# Altium footprint library nrf52810_qxaa.PcbLib: 8 footprints
Each footprint in its own frame and in the unit in brackets; x right, y up, seen from the top. Pads: shape width x height; smd on the part's side, far side on the other; paste and mask are expansions set on the pad; w line width, h text height; cw(c..) or ccw(c..) is an arc to the next point about the centre after c.
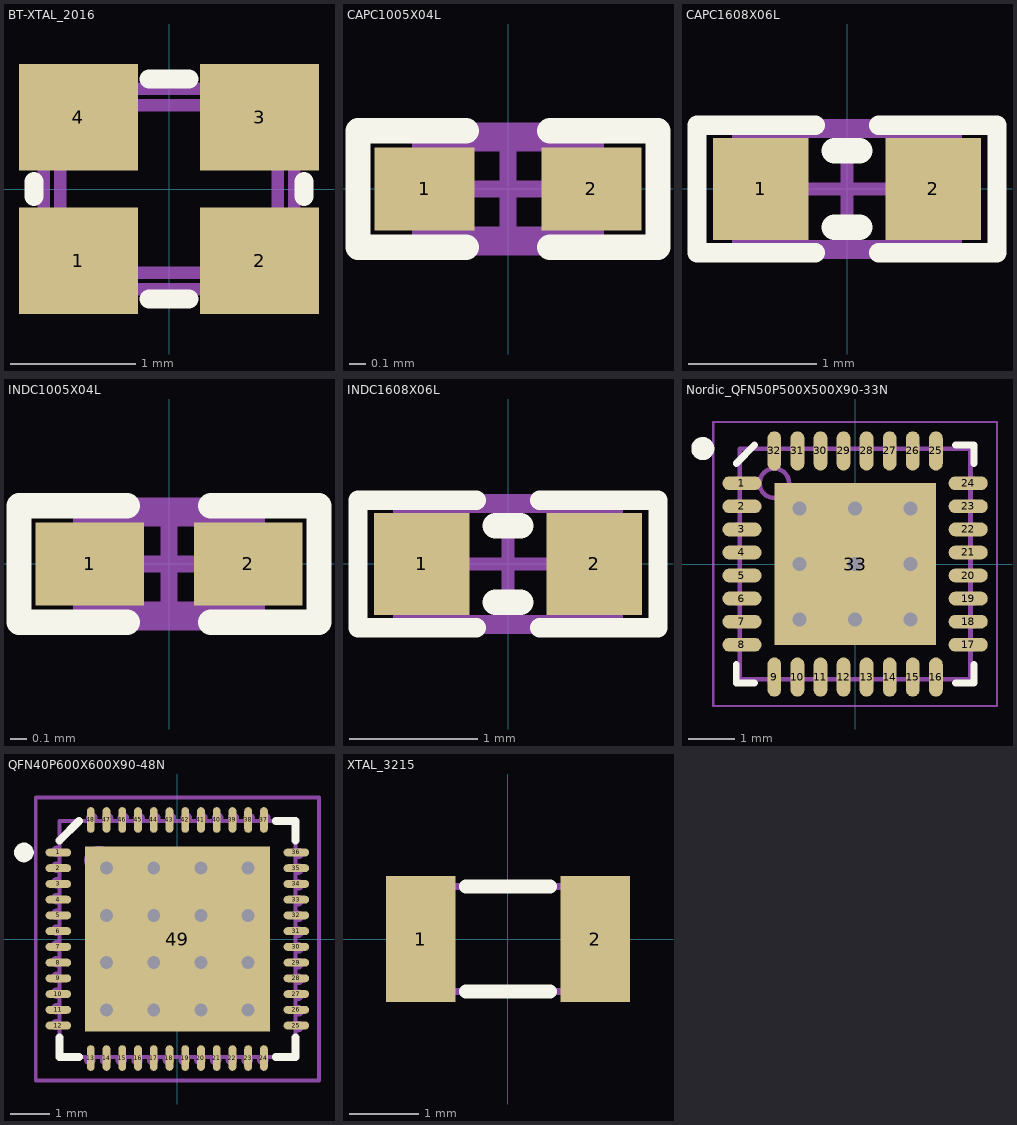
[diagram p0: the footprints below, top view; thin cyan lines are the x and y axes]

## BT-XTAL_2016 [mm]
pads (4):
  rect 0.95x0.85 smd: 1(-0.725,-0.575) 2(0.725,-0.575) 3(0.725,0.575) 4(-0.725,0.575)
Top Overlay:
  lines w0.152: -1.08,-0.06 -1.08,0.06 ; -0.16,-0.88 0.16,-0.88 ; -0.16,0.88 0.16,0.88 ; 1.08,-0.06 1.08,0.06
Mechanical 7:
  lines w0.1: -1,-0.7 cw(c-1,-0.8) -0.9,-0.8 0.9,-0.8 cw(c1,-0.8) 1,-0.7 1,0.7 cw(c1,0.8) 0.9,0.8 -0.9,0.8 cw(c-1,0.8) -1,0.7 -1,-0.7 ; -0.87,-0.57 ccw(c-0.77,-0.57) -0.77,-0.67 0.77,-0.67 ccw(c0.77,-0.57) 0.87,-0.57 0.87,0.57 ccw(c0.77,0.57) 0.77,0.67 -0.77,0.67 ccw(c-0.77,0.57) -0.87,0.57 -0.87,-0.57
  text ".Designator" at -0.7,-0.2 h0.38
3D body: height 0.56, standoff 0.15, extent -0.7,-0.65 0.7,0.65
3D body "User Library-GeyerElectronics_KX5.step": height 0.56, standoff 0, extent -1.05,-0.85 1.05,0.85

## CAPC1005X04L [mm]
pads (2):
  rect 0.6x0.5 smd: 1(-0.5,0) 2(0.5,0)
Top Overlay:
  lines w0.152: -0.25,-0.35 -0.9,-0.35 -0.9,0.35 -0.25,0.35 ; 0.25,-0.35 0.9,-0.35 0.9,0.35 0.25,0.35
Mechanical 7:
  lines w0.1: -0.525,-0.275 -0.525,0.275 0.525,0.275 0.525,-0.275 -0.525,-0.275
  text ".Designator" at -0.432,-0.152 h0.3
Mechanical 15:
  lines w0.1: -0.275,0 0.275,0 ; 0,-0.275 0,0.275 ; -0.9,-0.35 0.9,-0.35 0.9,0.35 -0.9,0.35 -0.9,-0.35
3D body "User Library-0402(1005M) Cap.step": height 0.5, standoff -0.01, extent -0.508,-0.254 0.508,0.254

## CAPC1608X06L [mm]
pads (2):
  rect 0.75x0.8 smd: 1(-0.675,0) 2(0.675,0)
Top Overlay:
  lines w0.152: -0.25,-0.5 -1.175,-0.5 -1.175,0.5 -0.25,0.5 ; 0.25,-0.5 1.175,-0.5 1.175,0.5 0.25,0.5
  lines w0.2: -0.1,-0.3 0.1,-0.3 ; -0.1,0.3 0.1,0.3
Mechanical 7:
  lines w0.1: -0.85,-0.45 -0.85,0.45 0.85,0.45 0.85,-0.45 -0.85,-0.45
  text ".Designator" at -0.685,-0.142 h0.38
Mechanical 15:
  lines w0.1: -0.45,0 0.45,0 ; 0,-0.45 0,0.45 ; -1.175,-0.5 1.175,-0.5 1.175,0.5 -1.175,0.5 -1.175,-0.5
3D body "User Library-Chip Capacitor 0603.step": height 0.8, standoff 0, extent -0.8,-0.43 0.8,0.43

## INDC1005X04L [mm]
pads (2):
  rect 0.65x0.5 smd: 1(-0.475,0) 2(0.475,0)
Top Overlay:
  lines w0.152: -0.25,-0.35 -0.9,-0.35 -0.9,0.35 -0.25,0.35 ; 0.25,-0.35 0.9,-0.35 0.9,0.35 0.25,0.35
Mechanical 7:
  lines w0.1: -0.525,-0.275 -0.525,0.275 0.525,0.275 0.525,-0.275 -0.525,-0.275
  text ".Designator" at -0.432,-0.152 h0.3
Mechanical 15:
  lines w0.1: -0.275,0 0.275,0 ; 0,-0.275 0,0.275 ; -0.9,-0.35 -0.9,0.35 0.9,0.35 0.9,-0.35 -0.9,-0.35
3D body "User Library-Chip Inductor 0402.step": height 0.5, standoff 0, extent -0.5,-0.3 0.5,0.3

## INDC1608X06L [mm]
pads (2):
  rect 0.75x0.8 smd: 1(-0.675,0) 2(0.675,0)
Top Overlay:
  lines w0.152: -0.25,-0.5 -1.175,-0.5 -1.175,0.5 -0.25,0.5 ; 0.25,-0.5 1.175,-0.5 1.175,0.5 0.25,0.5
  lines w0.2: -0.1,-0.3 0.1,-0.3 ; -0.1,0.3 0.1,0.3
Mechanical 7:
  lines w0.1: -0.85,-0.45 0.85,-0.45 0.85,0.45 -0.85,0.45 -0.85,-0.45
  text ".Designator" at -0.7,-0.2 h0.38
Mechanical 15:
  lines w0.1: -0.45,0 0.45,0 ; 0,-0.45 0,0.45 ; -1.175,-0.5 -1.175,0.5 1.175,0.5 1.175,-0.5 -1.175,-0.5
3D body "User Library-Chip Inductor.step": height 0.8, standoff 0, extent -0.8,-0.475 0.8,0.475

## Nordic_QFN50P500X500X90-33N [mm]
pads (33):
  oval 0.85x0.3 smd mask+0.076: 1(-2.45,1.75) 2(-2.45,1.25) 3(-2.45,0.75) 4(-2.45,0.25) 5(-2.45,-0.25) 6(-2.45,-0.75) 7(-2.45,-1.25) 8(-2.45,-1.75) 17(2.45,-1.75) 18(2.45,-1.25) 19(2.45,-0.75) 20(2.45,-0.25) 21(2.45,0.25) 22(2.45,0.75) 23(2.45,1.25) 24(2.45,1.75)
  oval 0.3x0.85 smd mask+0.076: 9(-1.75,-2.45) 10(-1.25,-2.45) 11(-0.75,-2.45) 12(-0.25,-2.45) 13(0.25,-2.45) 14(0.75,-2.45) 15(1.25,-2.45) 16(1.75,-2.45) 25(1.75,2.45) 26(1.25,2.45) 27(0.75,2.45) 28(0.25,2.45) 29(-0.25,2.45) 30(-0.75,2.45) 31(-1.25,2.45) 32(-1.75,2.45)
  rect 3.5x3.5 smd: 33(0,0)
via 1.2,1.2 diameter 0.61 hole 0.305
via 1.2,0 diameter 0.61 hole 0.305
via 1.2,-1.2 diameter 0.61 hole 0.305
via 0,-1.2 diameter 0.61 hole 0.305
via -1.2,-1.2 diameter 0.61 hole 0.305
via -1.2,0 diameter 0.61 hole 0.305
via -1.2,1.2 diameter 0.61 hole 0.305
via 0,1.2 diameter 0.61 hole 0.305
via 0,0 diameter 0.61 hole 0.305
Top Overlay:
  circle w0.25: c-3.3,2.5 r0.125
  lines w0.15: -2.575,-2.175 -2.575,-2.575 -2.175,-2.575 ; -2.575,2.175 -2.175,2.575 ; 2.175,-2.575 2.575,-2.575 2.575,-2.175 ; 2.175,2.575 2.575,2.575 2.575,2.175
Mechanical 7:
  circle w0.1: c-1.75,1.75 r0.32
  lines w0.1: -2.5,-1.845 -2.571,-1.845 cw(c-2.571,-1.75) -2.571,-1.655 -2.5,-1.655 ; -2.5,-1.345 -2.571,-1.345 cw(c-2.571,-1.25) -2.571,-1.155 -2.5,-1.155 ; -2.5,-0.845 -2.571,-0.845 cw(c-2.571,-0.75) -2.571,-0.655 -2.5,-0.655 ; -2.5,-0.345 -2.571,-0.345 cw(c-2.571,-0.25) -2.571,-0.155 -2.5,-0.155 ; -2.5,0.155 -2.571,0.155 cw(c-2.571,0.25) -2.571,0.345 -2.5,0.345 ; -2.5,0.655 -2.571,0.655 cw(c-2.571,0.75) -2.571,0.845 -2.5,0.845 ; -2.5,1.155 -2.571,1.155 cw(c-2.571,1.25) -2.571,1.345 -2.5,1.345 ; -2.5,1.655 -2.571,1.655 cw(c-2.571,1.75) -2.571,1.845 -2.5,1.845 ; -1.845,-2.5 -1.845,-2.571 ccw(c-1.75,-2.571) -1.655,-2.571 -1.655,-2.5 ; -1.845,2.5 -1.845,2.571 cw(c-1.75,2.571) -1.655,2.571 -1.655,2.5 ; -1.345,-2.5 -1.345,-2.571 ccw(c-1.25,-2.571) -1.155,-2.571 -1.155,-2.5 ; -1.345,2.5 -1.345,2.571 cw(c-1.25,2.571) -1.155,2.571 -1.155,2.5 ; -0.845,-2.5 -0.845,-2.571 ccw(c-0.75,-2.571) -0.655,-2.571 -0.655,-2.5 ; -0.845,2.5 -0.845,2.571 cw(c-0.75,2.571) -0.655,2.571 -0.655,2.5 ; -0.345,-2.5 -0.345,-2.571 ccw(c-0.25,-2.571) -0.155,-2.571 -0.155,-2.5 ; -0.345,2.5 -0.345,2.571 cw(c-0.25,2.571) -0.155,2.571 -0.155,2.5 ; 0.155,-2.5 0.155,-2.571 ccw(c0.25,-2.571) 0.345,-2.571 0.345,-2.5 ; 0.155,2.5 0.155,2.571 cw(c0.25,2.571) 0.345,2.571 0.345,2.5 ; 0.655,-2.5 0.655,-2.571 ccw(c0.75,-2.571) 0.845,-2.571 0.845,-2.5 ; 0.655,2.5 0.655,2.571 cw(c0.75,2.571) 0.845,2.571 0.845,2.5 ; 1.155,-2.5 1.155,-2.571 ccw(c1.25,-2.571) 1.345,-2.571 1.345,-2.5 ; 1.155,2.5 1.155,2.571 cw(c1.25,2.571) 1.345,2.571 1.345,2.5 ; 1.655,-2.5 1.655,-2.571 ccw(c1.75,-2.571) 1.845,-2.571 1.845,-2.5 ; 1.655,2.5 1.655,2.571 cw(c1.75,2.571) 1.845,2.571 1.845,2.5 ; 2.5,-1.845 2.571,-1.845 ccw(c2.571,-1.75) 2.571,-1.655 2.5,-1.655 ; 2.5,-1.345 2.571,-1.345 ccw(c2.571,-1.25) 2.571,-1.155 2.5,-1.155 ; 2.5,-0.845 2.571,-0.845 ccw(c2.571,-0.75) 2.571,-0.655 2.5,-0.655 ; 2.5,-0.345 2.571,-0.345 ccw(c2.571,-0.25) 2.571,-0.155 2.5,-0.155 ; 2.5,0.155 2.571,0.155 ccw(c2.571,0.25) 2.571,0.345 2.5,0.345 ; 2.5,0.655 2.571,0.655 ccw(c2.571,0.75) 2.571,0.845 2.5,0.845 ; 2.5,1.155 2.571,1.155 ccw(c2.571,1.25) 2.571,1.345 2.5,1.345 ; 2.5,1.655 2.571,1.655 ccw(c2.571,1.75) 2.571,1.845 2.5,1.845 ; -2.5,-2.5 2.5,-2.5 2.5,2.5 -2.5,2.5 -2.5,-2.5
  text ".Designator" at -0.879,-0.131 h0.38
Mechanical 15:
  lines w0.05: -3.075,-3.075 -3.075,3.075 3.075,3.075 3.075,-3.075 -3.075,-3.075
  lines w0.1: -0.5,0 0.5,0 ; 0,-0.5 0,0.5
3D body "QFN50P500X500X90_HS-33N.step": height 0.9, standoff 0, extent -2.501,-2.501 2.501,2.501

## QFN40P600X600X90-48N [mm]
pads (49):
  oval 0.65x0.2 smd: 1(-3.025,2.2) 2(-3.025,1.8) 3(-3.025,1.4) 4(-3.025,1) 5(-3.025,0.6) 6(-3.025,0.2) 7(-3.025,-0.2) 8(-3.025,-0.6) 9(-3.025,-1) 10(-3.025,-1.4) 11(-3.025,-1.8) 12(-3.025,-2.2) 25(3.025,-2.2) 26(3.025,-1.8) 27(3.025,-1.4) 28(3.025,-1) 29(3.025,-0.6) 30(3.025,-0.2) 31(3.025,0.2) 32(3.025,0.6) 33(3.025,1) 34(3.025,1.4) 35(3.025,1.8) 36(3.025,2.2)
  oval 0.2x0.65 smd: 13(-2.2,-3.025) 14(-1.8,-3.025) 15(-1.4,-3.025) 16(-1,-3.025) 17(-0.6,-3.025) 18(-0.2,-3.025) 19(0.2,-3.025) 20(0.6,-3.025) 21(1,-3.025) 22(1.4,-3.025) 23(1.8,-3.025) 24(2.2,-3.025) 37(2.2,3.025) 38(1.8,3.025) 39(1.4,3.025) 40(1,3.025) 41(0.6,3.025) 42(0.2,3.025) 43(-0.2,3.025) 44(-0.6,3.025) 45(-1,3.025) 46(-1.4,3.025) 47(-1.8,3.025) 48(-2.2,3.025)
  rect 4.7x4.7 smd: 49(0,0)
via -1.8,1.8 diameter 0.66 hole 0.33
via -0.6,1.8 diameter 0.66 hole 0.33
via 0.6,1.8 diameter 0.66 hole 0.33
via 1.8,1.8 diameter 0.66 hole 0.33
via -1.8,0.6 diameter 0.66 hole 0.33
via -0.6,0.6 diameter 0.66 hole 0.33
via 0.6,0.6 diameter 0.66 hole 0.33
via 1.8,0.6 diameter 0.66 hole 0.33
via -1.8,-0.6 diameter 0.66 hole 0.33
via -0.6,-0.6 diameter 0.66 hole 0.33
via 0.6,-0.6 diameter 0.66 hole 0.33
via 1.8,-0.6 diameter 0.66 hole 0.33
via -1.8,-1.8 diameter 0.66 hole 0.33
via -0.6,-1.8 diameter 0.66 hole 0.33
via 0.6,-1.8 diameter 0.66 hole 0.33
via 1.8,-1.8 diameter 0.66 hole 0.33
Top Overlay:
  circle w0.25: c-3.9,2.2 r0.125
  lines w0.2: -3,-2.5 -3,-3 -2.5,-3 ; -3,2.5 -2.5,3 ; 2.5,-3 3,-3 3,-2.5 ; 2.5,3 3,3 3,2.5
Mechanical 7:
  circle w0.1: c-2,2 r0.32
  lines w0.1: -3,-2.269 -3.071,-2.269 cw(c-3.071,-2.174) -3.071,-2.079 -3,-2.079 ; -3,-1.869 -3.071,-1.869 cw(c-3.071,-1.774) -3.071,-1.679 -3,-1.679 ; -3,-1.469 -3.071,-1.469 cw(c-3.071,-1.374) -3.071,-1.279 -3,-1.279 ; -3,-1.069 -3.071,-1.069 cw(c-3.071,-0.974) -3.071,-0.879 -3,-0.879 ; -3,-0.669 -3.071,-0.669 cw(c-3.071,-0.574) -3.071,-0.479 -3,-0.479 ; -3,-0.269 -3.071,-0.269 cw(c-3.071,-0.174) -3.071,-0.079 -3,-0.079 ; -3,0.131 -3.071,0.131 cw(c-3.071,0.226) -3.071,0.321 -3,0.321 ; -3,0.531 -3.071,0.531 cw(c-3.071,0.626) -3.071,0.721 -3,0.721 ; -3,0.931 -3.071,0.931 cw(c-3.071,1.026) -3.071,1.121 -3,1.121 ; -3,1.331 -3.071,1.331 cw(c-3.071,1.426) -3.071,1.521 -3,1.521 ; -3,1.731 -3.071,1.731 cw(c-3.071,1.826) -3.071,1.921 -3,1.921 ; -3,2.131 -3.071,2.131 cw(c-3.071,2.226) -3.071,2.321 -3,2.321 ; -2.321,-3 -2.321,-3.071 ccw(c-2.226,-3.071) -2.131,-3.071 -2.131,-3 ; -2.269,3 -2.269,3.071 cw(c-2.174,3.071) -2.079,3.071 -2.079,3 ; -1.921,-3 -1.921,-3.071 ccw(c-1.826,-3.071) -1.731,-3.071 -1.731,-3 ; -1.869,3 -1.869,3.071 cw(c-1.774,3.071) -1.679,3.071 -1.679,3 ; -1.521,-3 -1.521,-3.071 ccw(c-1.426,-3.071) -1.331,-3.071 -1.331,-3 ; -1.469,3 -1.469,3.071 cw(c-1.374,3.071) -1.279,3.071 -1.279,3 ; -1.121,-3 -1.121,-3.071 ccw(c-1.026,-3.071) -0.931,-3.071 -0.931,-3 ; -1.069,3 -1.069,3.071 cw(c-0.974,3.071) -0.879,3.071 -0.879,3 ; -0.721,-3 -0.721,-3.071 ccw(c-0.626,-3.071) -0.531,-3.071 -0.531,-3 ; -0.669,3 -0.669,3.071 cw(c-0.574,3.071) -0.479,3.071 -0.479,3 ; -0.321,-3 -0.321,-3.071 ccw(c-0.226,-3.071) -0.131,-3.071 -0.131,-3 ; -0.269,3 -0.269,3.071 cw(c-0.174,3.071) -0.079,3.071 -0.079,3 ; 0.079,-3 0.079,-3.071 ccw(c0.174,-3.071) 0.269,-3.071 0.269,-3 ; 0.131,3 0.131,3.071 cw(c0.226,3.071) 0.321,3.071 0.321,3 ; 0.479,-3 0.479,-3.071 ccw(c0.574,-3.071) 0.669,-3.071 0.669,-3 ; 0.531,3 0.531,3.071 cw(c0.626,3.071) 0.721,3.071 0.721,3 ; 0.879,-3 0.879,-3.071 ccw(c0.974,-3.071) 1.069,-3.071 1.069,-3 ; 0.931,3 0.931,3.071 cw(c1.026,3.071) 1.121,3.071 1.121,3 ; 1.279,-3 1.279,-3.071 ccw(c1.374,-3.071) 1.469,-3.071 1.469,-3 ; 1.331,3 1.331,3.071 cw(c1.426,3.071) 1.521,3.071 1.521,3 ; 1.679,-3 1.679,-3.071 ccw(c1.774,-3.071) 1.869,-3.071 1.869,-3 ; 1.731,3 1.731,3.071 cw(c1.826,3.071) 1.921,3.071 1.921,3 ; 2.079,-3 2.079,-3.071 ccw(c2.174,-3.071) 2.269,-3.071 2.269,-3 ; 2.131,3 2.131,3.071 cw(c2.226,3.071) 2.321,3.071 2.321,3 ; 3,-2.321 3.071,-2.321 ccw(c3.071,-2.226) 3.071,-2.131 3,-2.131 ; 3,-1.921 3.071,-1.921 ccw(c3.071,-1.826) 3.071,-1.731 3,-1.731 ; 3,-1.521 3.071,-1.521 ccw(c3.071,-1.426) 3.071,-1.331 3,-1.331 ; 3,-1.121 3.071,-1.121 ccw(c3.071,-1.026) 3.071,-0.931 3,-0.931 ; 3,-0.721 3.071,-0.721 ccw(c3.071,-0.626) 3.071,-0.531 3,-0.531 ; 3,-0.321 3.071,-0.321 ccw(c3.071,-0.226) 3.071,-0.131 3,-0.131 ; 3,0.079 3.071,0.079 ccw(c3.071,0.174) 3.071,0.269 3,0.269 ; 3,0.479 3.071,0.479 ccw(c3.071,0.574) 3.071,0.669 3,0.669 ; 3,0.879 3.071,0.879 ccw(c3.071,0.974) 3.071,1.069 3,1.069 ; 3,1.279 3.071,1.279 ccw(c3.071,1.374) 3.071,1.469 3,1.469 ; 3,1.679 3.071,1.679 ccw(c3.071,1.774) 3.071,1.869 3,1.869 ; 3,2.079 3.071,2.079 ccw(c3.071,2.174) 3.071,2.269 3,2.269 ; -3,-3 -3,3 3,3 3,-3 -3,-3
  text ".Designator" at -1.1,-0.2 h0.38
Mechanical 15:
  lines w0.1: -0.5,0 0.5,0 ; 0,-0.5 0,0.5 ; -3.6,-3.6 -3.6,3.6 3.6,3.6 3.6,-3.6 -3.6,-3.6
3D body "User Library-QFN48.step": height 0.86, standoff -0.01, extent -3.02,-3.02 3.02,3.02

## XTAL_3215 [mm]
pads (2):
  rect 1x1.8 smd: 1(-1.25,0) 2(1.25,0)
Top Overlay:
  lines w0.2: -0.6,-0.75 0.6,-0.75 ; -0.6,0.75 0.6,0.75
Mechanical 7:
  lines w0.1: -1.6,-0.75 -1.6,0.75 1.6,0.75 1.6,-0.75 -1.6,-0.75
  text ".Designator" at -0.845,-0.133 h0.38
Mechanical 15:
  lines w0.1: -1.6,-0.55 cw(c-1.6,-0.75) -1.4,-0.75 1.4,-0.75 cw(c1.6,-0.75) 1.6,-0.55 1.6,0.55 cw(c1.6,0.75) 1.4,0.75 -1.4,0.75 cw(c-1.6,0.75) -1.6,0.55 -1.6,-0.55
3D body: height 0.81, standoff 0.15, extent -1.2,-0.6 1.2,0.6
3D body "User Library-Siward_SX3215.step": height 0.81, standoff 0, extent -1.6,-0.75 1.6,0.75